# Altium footprint library Generals.PcbLib: 196 footprints (part 7 of 13)
Each footprint in its own frame and in the unit in brackets; x right, y up, seen from the top. Pads: shape width x height; smd on the part's side, far side on the other; paste and mask are expansions set on the pad; w line width, h text height; cw(c..) or ccw(c..) is an arc to the next point about the centre after c.
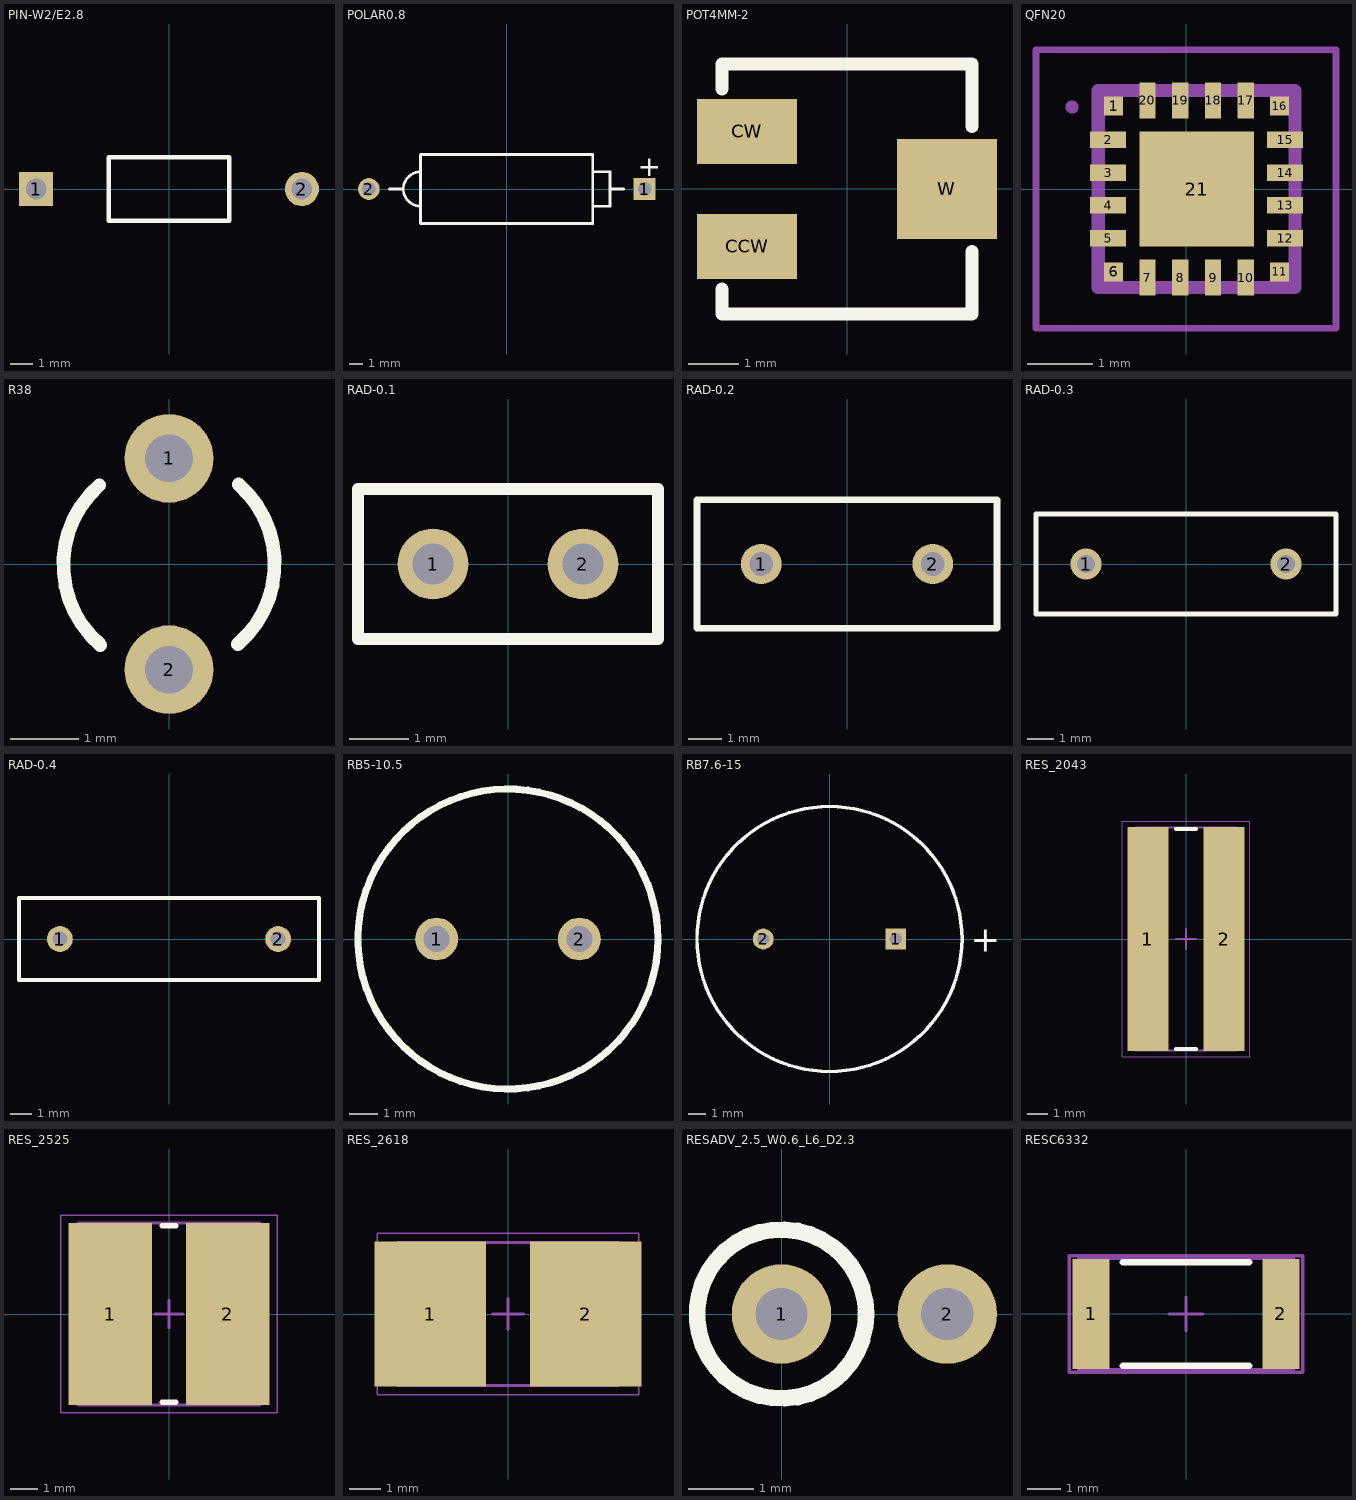
[diagram p6: the footprints below, top view; thin cyan lines are the x and y axes]

## PIN-W2/E2.8 [mm] "Thru-Hole; 2 Leads"
pads (2):
  rect 1.5x1.5 hole 0.9: 1(-5.825,0)
  round 1.5 hole 0.9: 2(5.825,0)
Top Overlay:
  lines w0.2: -2.65,-1.4 2.65,-1.4 2.65,1.4 -2.65,1.4 -2.65,-1.4

## POLAR0.8 [mm] "Polarized Capacitor; 2 Leads"
height 5.08
pads (2):
  rect 1.6x1.6 hole 1: 1(10.16,0)
  round 1.6 hole 1: 2(-10.16,0)
Top Overlay:
  lines w0.2: -8.636,0 -7.62,0 ; -6.35,-1.27 cw(c-6.35,0) -6.35,1.27 ; 6.35,-1.27 7.62,-1.27 7.62,1.27 6.35,1.27 ; 7.62,0 8.636,0 ; -6.35,-2.54 6.35,-2.54 6.35,2.54 -6.35,2.54 -6.35,-2.54
  text "+" at 9.652,0.95 h1.5

## POT4MM-2 [mm] "Square Trimming Potentiometer"
pads (3):
  rect 2x1.3 smd: CCW(-2,-1.15) CW(-2,1.15)
  rect 2x2 smd: W(2,0)
Top Overlay:
  lines w0.254: -2.5,-2 -2.5,-2.5 2.5,-2.5 2.5,-1.25 ; -2.5,2 -2.5,2.5 2.5,2.5 2.5,1.25

## QFN20 [mm]
pads (21):
  rect 0.29x0.29 smd: 1(-1.103,1.265) 6(-1.103,-1.265) 11(1.427,-1.265) 16(1.427,1.265)
  rect 0.55x0.25 smd: 2(-1.188,0.75) 3(-1.188,0.25) 4(-1.188,-0.25) 5(-1.188,-0.75) 12(1.513,-0.75) 13(1.513,-0.25) 14(1.513,0.25) 15(1.513,0.75)
  rect 0.25x0.55 smd: 7(-0.588,-1.35) 8(-0.088,-1.35) 9(0.412,-1.35) 10(0.912,-1.35) 17(0.912,1.35) 18(0.412,1.35) 19(-0.088,1.35) 20(-0.588,1.35)
  rect 1.75x1.75 smd: 21(0.162,0)
Mechanical 8:
  lines w0.1: -2.288,-2.125 2.288,-2.125 2.288,2.125 -2.288,2.125 -2.288,-2.125
  lines w0.2: -1.338,-1.5 1.662,-1.5 1.662,1.5 -1.338,1.5 -1.338,-1.5
Mechanical 22:
  lines w0.1: -1.738,1.2 ccw(c-1.738,1.25) -1.738,1.3 ccw(c-1.738,1.25) -1.738,1.2
3D body: height 0.75, standoff 0, extent -1.397,-1.524 1.651,1.524

## R38 [mm] "Crystal, Thru-Hole; 2 Leads; Body 3.1 x 8.2 mm (Dia.xH)"
height 8.2
pads (2):
  round 1.3 hole 0.7: 1(0,1.55) 2(0,-1.55)
Top Overlay:
  lines w0.2: -1.022,1.155 ccw(c0,-0.01) -1.006,-1.189 ; 1.006,-1.179 ccw(c0,0) 1.022,1.165

## RAD-0.1 [mm] "Radial Cap, Thru-Hole; 2 Leads; 0.1 in Pin Spacing"
pads (2):
  round 1.2 hole 0.7: 1(-1.27,0) 2(1.27,0)
Top Overlay:
  lines w0.2: -2.54,-1.27 2.54,-1.27 2.54,1.27 -2.54,1.27 -2.54,-1.27

## RAD-0.2 [mm] "Radial Cap, Thru-Hole; 2 Leads; 0.2 in Pin Spacing"
pads (2):
  round 1.2 hole 0.7: 1(-2.54,0) 2(2.54,0)
Top Overlay:
  lines w0.2: -4.445,-1.905 4.445,-1.905 4.445,1.905 -4.445,1.905 -4.445,-1.905

## RAD-0.3 [mm] "Radial Cap, Thru-Hole; 2 Leads; 0.3 in Pin Spacing"
height 6
pads (2):
  round 1.2 hole 0.7: 1(-3.81,0) 2(3.81,0)
Top Overlay:
  lines w0.2: -5.715,-1.905 -5.715,1.905 5.715,1.905 5.715,-1.905 -5.715,-1.905

## RAD-0.4 [mm] "Radial Cap, Thru-Hole; 2 Leads; 0.4 in Pin Spacing"
pads (2):
  round 1.2 hole 0.7: 1(-5.08,0) 2(5.08,0)
Top Overlay:
  lines w0.2: -6.985,-1.905 6.985,-1.905 6.985,1.905 -6.985,1.905 -6.985,-1.905

## RB5-10.5 [mm] "Capacitor (Radial); 2 Leads"
pads (2):
  round 1.5 hole 0.9: 1(-2.5,0) 2(2.5,0)
Top Overlay:
  circle w0.25: c0,0 r5.25
3D:
  circle w0.02: c0,0 r5.25

## RB7.6-15 [mm] "Polarized Capacitor (Radial); 2 Leads"
pads (2):
  rect 1.2x1.2 hole 0.7: 1(3.81,0)
  round 1.2 hole 0.7: 2(-3.81,0)
Top Overlay:
  circle w0.2: c0,0 r7.62
  text "+" at 8.132,-0.737 h1.5

## RES_2043 [mm] "Chip Resistor, 2-Leads, Body 5,00x11,00mm, IPC Medium Density"
height 0.5
pads (2):
  rect 2x11.05 smd: 1(-1.875,0) 2(1.875,0)
Top Overlay:
  lines w0.2: -0.5,-5.425 0.5,-5.425 ; -0.5,5.425 0.5,5.425
Mechanical 13:
  lines w0.1: -2.5,-5.5 2.5,-5.5 2.5,5.5 -2.5,5.5 -2.5,-5.5
Mechanical 15:
  lines w0.05: -3.15,-5.8 3.15,-5.8 3.15,5.8 -3.15,5.8 -3.15,-5.8
  lines w0.1: -0.5,0 0.5,0 ; 0,-0.5 0,0.5
3D body "RESC50110X05N.step": height 0.5, standoff 0, extent -2.5,-5.5 2.5,5.5

## RES_2525 [mm] "Chip Resistor, 2-Leads, Body 6,40x6,40mm, IPC Medium Density"
height 0.75
pads (2):
  rect 3.05x6.65 smd: 1(-2.15,0) 2(2.15,0)
Top Overlay:
  lines w0.2: -0.25,-3.225 0.25,-3.225 ; -0.25,3.225 0.25,3.225
Mechanical 13:
  lines w0.1: -3.325,-3.325 3.325,-3.325 3.325,3.325 -3.325,3.325 -3.325,-3.325
Mechanical 15:
  lines w0.05: -3.95,-3.6 3.95,-3.6 3.95,3.6 -3.95,3.6 -3.95,-3.6
  lines w0.1: -0.5,0 0.5,0 ; 0,-0.5 0,0.5
3D body: height 0.75, standoff 0, extent 1.125,-3.325 3.325,3.325
3D body: height 0.75, standoff 0, extent -3.325,-3.325 -1.125,3.325
3D body: height 0.75, standoff 0, extent -1.125,-3.325 1.125,3.325

## RES_2618 [mm]
height 1.75
pads (2):
  rect 3.6x4.65 smd: 1(-2.5,0) 2(2.5,0)
Mechanical 13:
  lines w0.1: -3.55,-2.3 3.55,-2.3 3.55,2.3 -3.55,2.3 -3.55,-2.3
Mechanical 15:
  lines w0.05: -4.2,-2.6 4.2,-2.6 4.2,2.6 -4.2,2.6 -4.2,-2.6
  lines w0.1: -0.5,0 0.5,0 ; 0,-0.5 0,0.5
3D body: height 1.75, standoff 0, extent 0.37,-2.3 3.55,2.3
3D body: height 1.75, standoff 0, extent -3.55,-2.3 -0.37,2.3
3D body: height 1.75, standoff 0, extent -0.37,-2.3 0.37,2.3

## RESADV_2.5_W0.6_L6_D2.3 [mil] "0,125 Вт Вертикальная установка"
pads (2):
  round 60 hole 31.5: 1(0,0) 2(100,0)
Top Overlay:
  circle w10: c0,0 r50.99
3D body: height 275.59, standoff 39.37, extent -44.91,-45.18 45.28,45.19
3D body: height 354.33, standoff 0, extent -10,-10 110,10

## RESC6332 [mm] "Chip Resistor, Body 6.3x3.2mm, IPC High Density"
height 0.9
pads (2):
  rect 1.1x3.3 smd: 1(-2.85,0) 2(2.85,0)
Top Overlay:
  lines w0.2: -1.9,-1.55 1.9,-1.55 ; -1.9,1.55 1.9,1.55
Mechanical 13:
  lines w0.1: -3.225,-1.675 -3.225,1.675 3.225,1.675 3.225,-1.675 -3.225,-1.675
Mechanical 15:
  lines w0.1: -0.5,0 0.5,0 ; 0,-0.5 0,0.5 ; -3.5,-1.75 -3.5,1.75 3.5,1.75 3.5,-1.75 -3.5,-1.75
3D body: height 0.9, standoff 0, extent -3.225,-1.675 3.225,1.675